# Altium schematic symbol library 74LVC138APWR.SchLib: 1 symbol
Pins are listed as number, name and electrical type; pins without a type are passive.

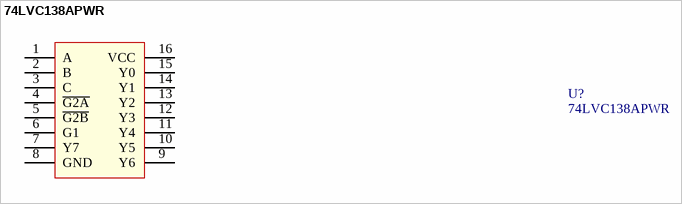
[diagram p0: symbol 74LVC138APWR]

## 74LVC138APWR
designator U?
IC, Translator
pins: 1 A, 2 B, 3 C, 4 ~{G2A}, 5 ~{G2B}, 6 G1, 7 Y7, 8 GND, 9 Y6, 10 Y5, 11 Y4, 12 Y3, 13 Y2, 14 Y1, 15 Y0, 16 VCC
1 alternate drawing of the same symbol